# EAGLE library part TY_BLE_EYSHSNZWZ (library taiyo_yuden_bt5)
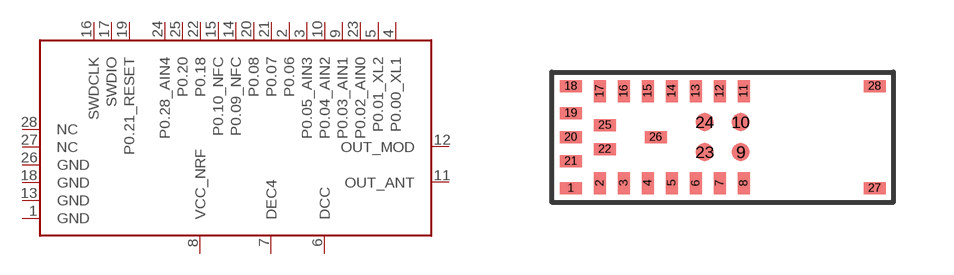
[diagram p0: symbol with the pads of MODULE; footprint MODULE]

Designator prefix -

## TY_BLE_EYSHSNZWZ  [MODULE]
1  GND
2  P0.06
3  P0.05_AIN3
4  P0.00_XL1
5  P0.01_XL2
6  DCC
7  DEC4
8  VCC_NRF
9  P0.03_AIN1
10  P0.04_AIN2
11  OUT_ANT
12  OUT_MOD
13  GND
14  P0.09_NFC
15  P0.10_NFC
16  SWDCLK
17  SWDIO
18  GND
19  P0.21_RESET
20  P0.08
21  P0.07
22  P0.18
23  P0.02_AIN0
24  P0.28_AIN4
25  P0.20
26  GND
27  NC
28  NC

## Footprint MODULE (pad centres in mm)
smd 0.55 x 0.3: 1 -3.8,-1.275; 18 -3.8,1.275; 19 -3.8,0.6; 20 -3.8,0; 21 -3.8,-0.6; 22 -2.95,-0.3; 25 -2.95,0.3; 26 -1.675,0; 27 3.8,-1.275; 28 3.8,1.275
smd 0.3 x 0.55: 2 -3.075,-1.15; 3 -2.475,-1.15; 4 -1.875,-1.15; 5 -1.275,-1.15; 6 -0.675,-1.15; 7 -0.075,-1.15; 8 0.525,-1.15; 11 0.525,1.15; 12 -0.075,1.15; 13 -0.675,1.15; 14 -1.275,1.15; 15 -1.875,1.15; 16 -2.475,1.15; 17 -3.075,1.15
smd 0.45 x 0.45: 9 0.45,-0.375; 10 0.45,0.375; 23 -0.45,-0.375; 24 -0.45,0.375